# Altium schematic symbol library LED.SchLib: 9 symbols
Pins are listed as number, name and electrical type; pins without a type are passive.

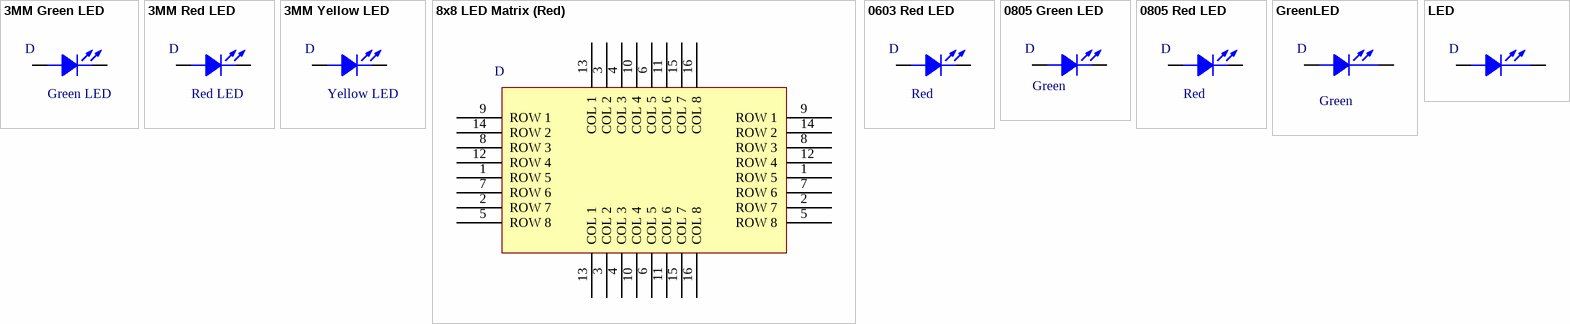
[diagram p0: symbols 3MM Green LED to LED]

## 3MM Green LED
designator D  value Green LED  (hidden comment: *)
footprint 3MM DIP GREEN LED
pins: 1 ANODE, 2 CATHODE

## 3MM Red LED
designator D  value Red LED  (hidden comment: *)
footprint 3MM DIP RED LED
pins: 1 ANODE, 2 CATHODE

## 3MM Yellow LED
designator D  value Yellow LED  (hidden comment: *)
footprint 3MM DIP YELLOW LED
pins: 1 ANODE, 2 CATHODE

## 8x8 LED Matrix (Red)
designator D  (value not drawn)
Value: 8x8 LED Matrix (Red)
footprint 8x8 LED Matrix (Red)
pins: 1 ROW 5, 1 ROW 5, 2 ROW 7, 2 ROW 7, 3 COL 2, 3 COL 2, 4 COL 3, 4 COL 3, 5 ROW 8, 5 ROW 8, 6 COL 5, 6 COL 5, 7 ROW 6, 7 ROW 6, 8 ROW 3, 8 ROW 3, 9 ROW 1, 9 ROW 1, 10 COL 4, 10 COL 4, 11 COL 6, 11 COL 6, 12 ROW 4, 12 ROW 4, 13 COL 1, 13 COL 1, 14 ROW 2, 14 ROW 2, 15 COL 7, 15 COL 7, 16 COL 8, 16 COL 8

## 0603 Red LED
designator D  value Red  (hidden comment: *)
Manufacturer: KINGBRIGHT; Manufacturer Code: KPT-1608SURCK; Voltage: 2V; Current: 20mA; Luminous Intensity: 230MCD; Farnell Code: 2290329; Unit Price: 0,07 €
footprint 0603 RED LED (Footprint not found)
pins: 1 ANODE, 2 CATHODE

## 0805 Green LED
designator D  value Green  (hidden comment: *)
Manufacturer: AVAGO Technologies; Manufacturer Code: HSMG-C170; Current: 20mA; Voltage: 2.2V; Farnell Code: 5790852; Unit Price: 0,134 €
footprint 0805 Green LED (Footprint not found)
pins: 1 ANODE, 2 CATHODE

## 0805 Red LED
designator D  value Red  (hidden comment: *)
Manufacturer: MULTICOMP; Voltage: 2.1V; Current: 20mA; Wavelenght: 625nm; Manufacturer Code: OVS-0808; Farnell Code: 1716768; Unit Price: 0,065 €; MOQ: 10
footprint 0805 RED LED
pins: 1 ANODE, 2 CATHODE

## GreenLED
designator D  value Green  (hidden comment: *)
Manufacturer: MULTICOMP; Manufacturer Code: MLC-S250GC; Farnell Code: 1581232; Unit Price: 0,164 €
footprint 1206 Green LED
pins: 1 ANODE, 2 CATHODE

## LED
designator D  (value not drawn)
Manufacturer Code: LGN971; Manufacturer: OSRAM; Value: Green; Farnell Code: 1226371; Unit Price: 0,127 €
footprint 1206
footprint 1206 Green LED
footprint 1206 Yellow LED
footprint 1206 White LED
footprint 1206 Red LED
pins: 1 ANODE, 2 CATHODE